# EAGLE library part 3-AA-BATTERY-HOLDER (library BaseApp)
Digikey No. :- __BK-1280-PC6-ND__
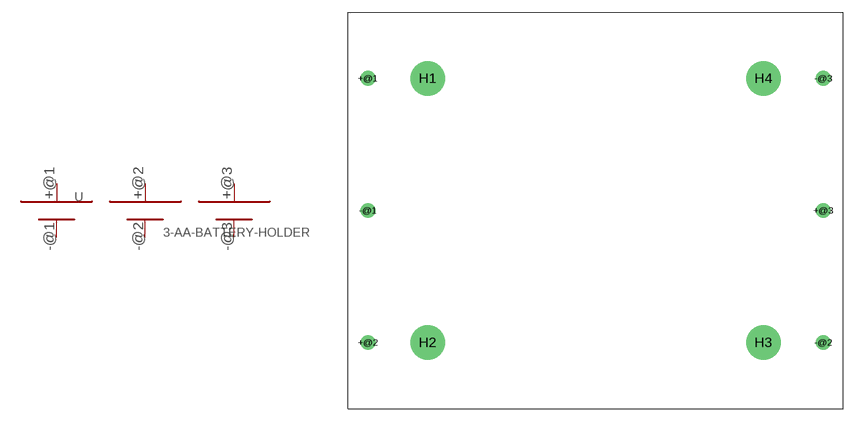
[diagram p75: symbol with the pads of 3-AA-BATTERY-HOLDER; footprint 3-AA-BATTERY-HOLDER]

Designator prefix -

## 3-AA-BATTERY-HOLDER  [3-AA-BATTERY-HOLDER]
+@1  +
+@2  +
+@3  +
-@1  -
-@2  -
-@3  -

## Footprint 3-AA-BATTERY-HOLDER (pad centres in mm)
drill 1.2: +@1 -27.6,16; +@2 -27.6,-16; +@3 27.6,0; -@1 -27.6,0; -@2 27.6,-16; -@3 27.6,16
drill 3.2: H1 -20.35,16; H2 -20.35,-16; H3 20.35,-16; H4 20.35,16